# EAGLE library part TMC249 (library Projekt)
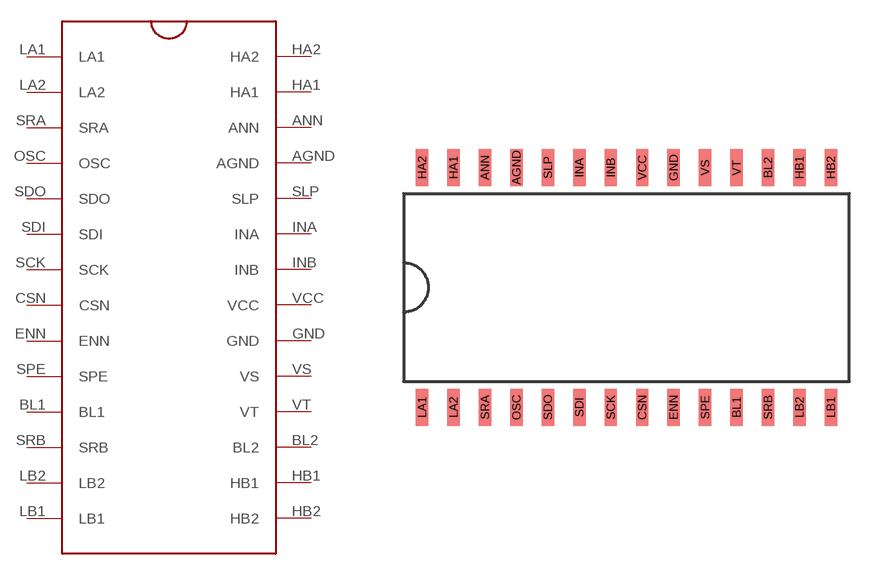
[diagram p0: symbol with the pads of SO28; footprint SO28]

Designator prefix -

## TMC249  [SO28]
AGND  AGND
ANN  ANN
BL1  BL1
BL2  BL2
CSN  CSN
ENN  ENN
GND  GND
HA1  HA1
HA2  HA2
HB1  HB1
HB2  HB2
INA  INA
INB  INB
LA1  LA1
LA2  LA2
LB1  LB1
LB2  LB2
OSC  OSC
SCK  SCK
SDI  SDI
SDO  SDO
SLP  SLP
SPE  SPE
SRA  SRA
SRB  SRB
VCC  VCC
VS  VS
VT  VT

## Footprint SO28 (pad centres in mm)
smd 0.5 x 1.5: AGND -4.445,4.845; ANN -5.715,4.845; BL1 4.445,-4.845; BL2 5.715,4.845; CSN 0.635,-4.845; ENN 1.905,-4.845; GND 1.905,4.845; HA1 -6.985,4.845; HA2 -8.255,4.845; HB1 6.985,4.845; HB2 8.255,4.845; INA -1.905,4.845; INB -0.635,4.845; LA1 -8.255,-4.845; LA2 -6.985,-4.845; LB1 8.255,-4.845; LB2 6.985,-4.845; OSC -4.445,-4.845; SCK -0.635,-4.845; SDI -1.905,-4.845; SDO -3.175,-4.845; SLP -3.175,4.845; SPE 3.175,-4.845; SRA -5.715,-4.845; SRB 5.715,-4.845; VCC 0.635,4.845; VS 3.175,4.845; VT 4.445,4.845